# Altium schematic symbol library MainLibrary.SchLib: 144 symbols (part 2 of 2)
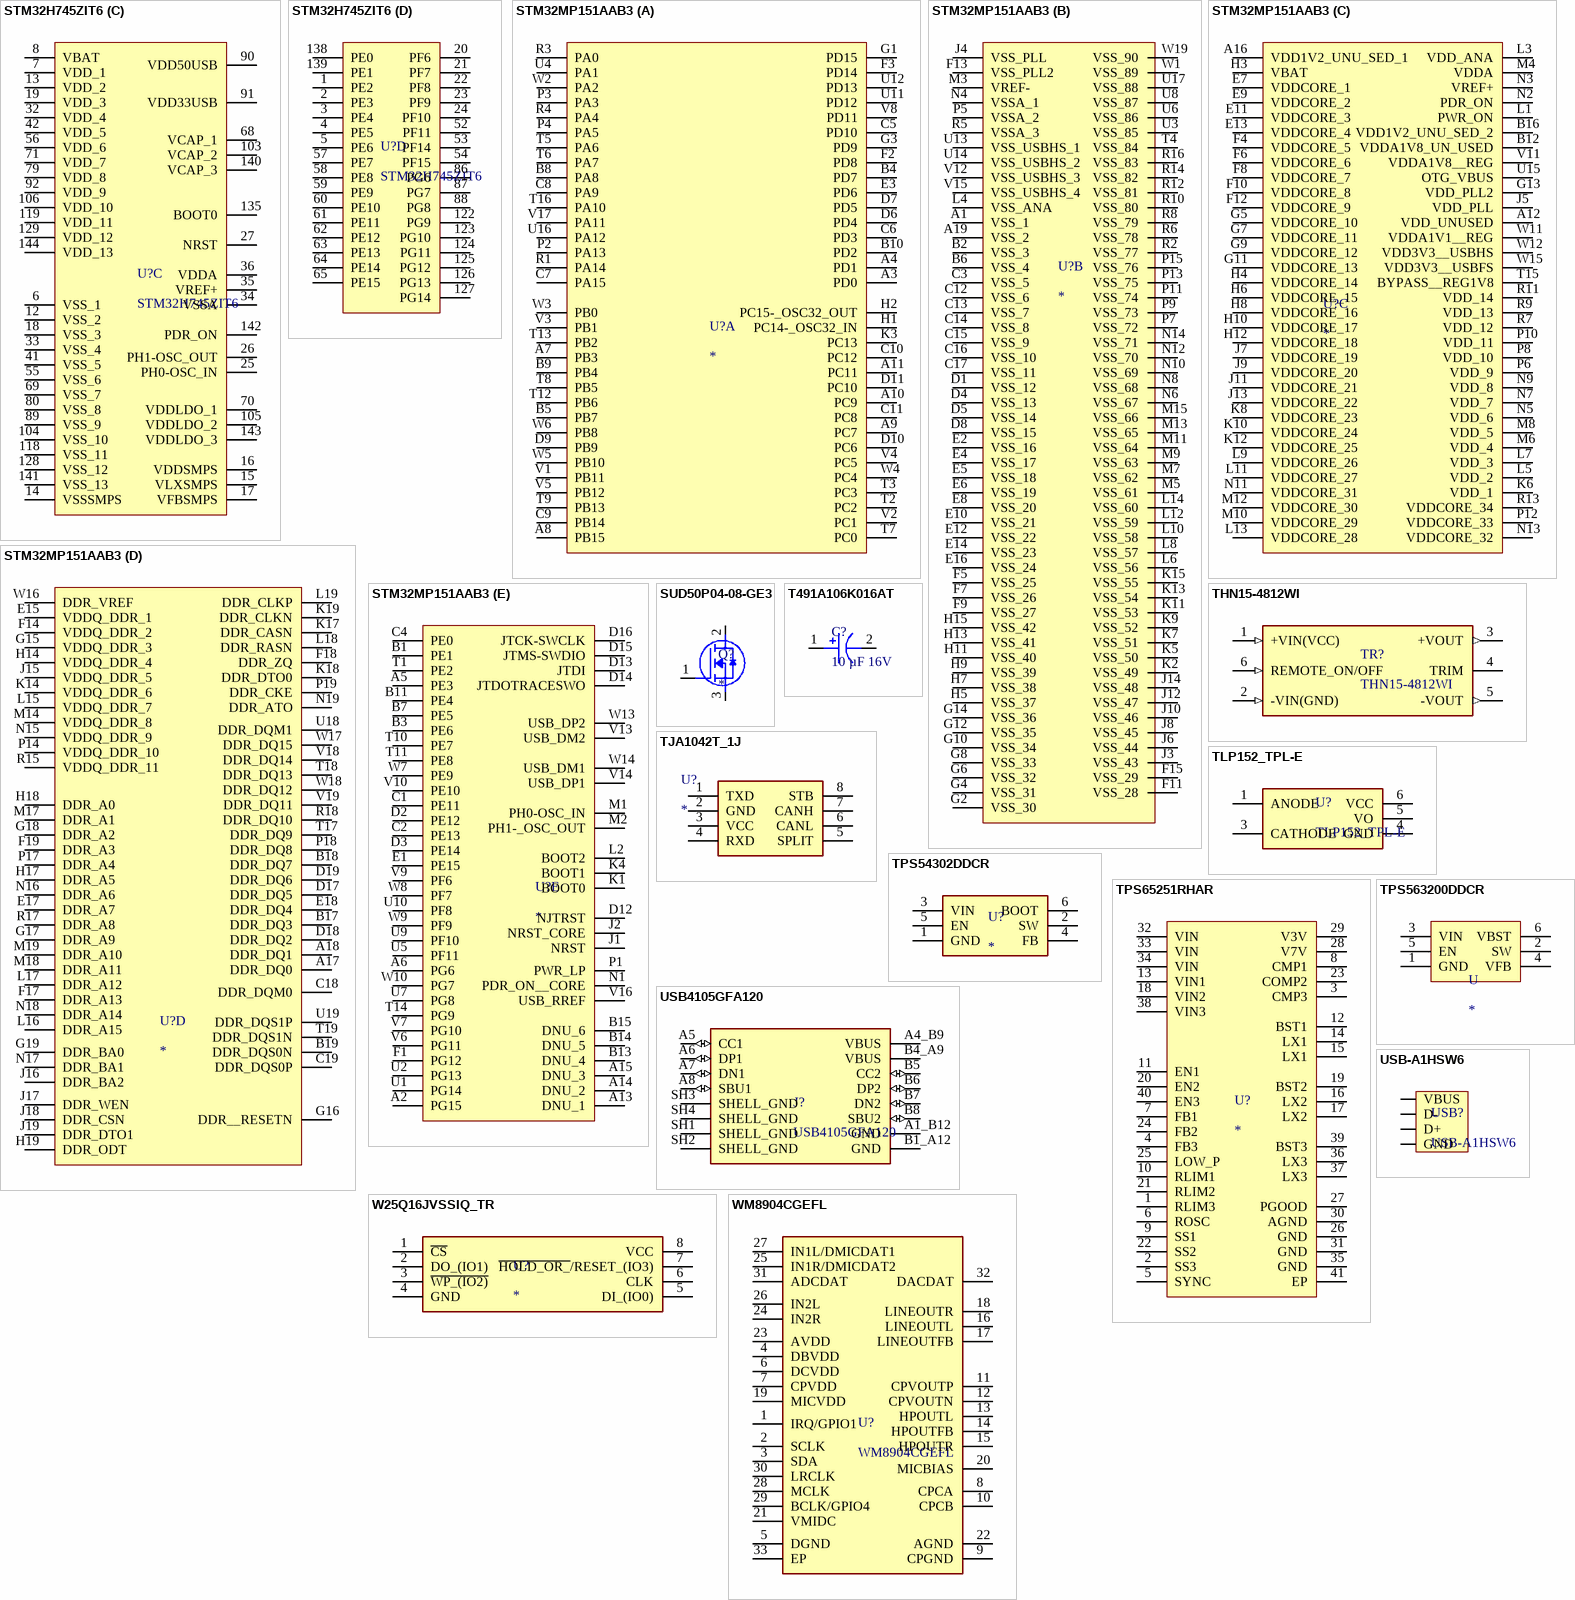
[diagram p5: symbols STM32H745ZIT6 to WM8904CGEFL]

## STM32MP151AAB3
designator U?
STM32 Microprocessor series L2 Cache; Manufacturer_Name: STMicroelectronics; Manufacturer_Part_Number: STM32MP151AAB3; Datasheet Link: https://mouser.componentsearchengine.com/Datasheets/2/STM32MP151AAB3.pdf; Height: 1.29mm; Mouser Part Number: 511-STM32MP151AAB3; Mouser Price/Stock: https://www.mouser.co.uk/ProductDetail/STMicroelectronics/STM32MP151AAB3?qs=9r4v7xj2Lnn9f1gOjh4FIw%3D%3D; Arrow Part Number: STM32MP151AAB3; Arrow Price/Stock: null?region=nac
footprint BGA354C80P19X19_1600X1600X129
part A pins: A3 PD0, A4 PD1, A7 PB3, A8 PB15, A9 PC7, A10 PC9, A11 PC11, B4 PD7, B5 PB7, B8 PA8, B9 PB4, B10 PD2, C5 PD10, C6 PD3, C7 PA15, C8 PA9, C9 PB14, C10 PC12, C11 PC8, D6 PD4, D7 PD5, D9 PB9, D10 PC6, D11 PC10, E3 PD6, F2 PD8, F3 PD14, G1 PD15, G3 PD9, H1 PC14-_OSC32_IN, H2 PC15-_OSC32_OUT, K3 PC13, P2 PA13, P3 PA3, P4 PA5, R1 PA14, R3 PA0, R4 PA4, T2 PC2, T3 PC3, T5 PA6, T6 PA7, T7 PC0, T8 PB5, T9 PB13, T12 PB6, T13 PB2, T16 PA10, U4 PA1, U11 PD12, U12 PD13, U16 PA12, V1 PB11, V2 PC1, V3 PB1, V4 PC5, V5 PB12, V8 PD11, V17 PA11, W2 PA2, W3 PB0, W4 PC4, W5 PB10, W6 PB8
part B pins: A1 VSS_1, A19 VSS_2, B2 VSS_3, B6 VSS_4, C3 VSS_5, C12 VSS_6, C13 VSS_7, C14 VSS_8, C15 VSS_9, C16 VSS_10, C17 VSS_11, D1 VSS_12, D4 VSS_13, D5 VSS_14, D8 VSS_15, E2 VSS_16, E4 VSS_17, E5 VSS_18, E6 VSS_19, E8 VSS_20, E10 VSS_21, E12 VSS_22, E14 VSS_23, E16 VSS_24, F5 VSS_25, F7 VSS_26, F9 VSS_27, F11 VSS_28, F13 VSS_PLL2, F15 VSS_29, G2 VSS_30, G4 VSS_31, G6 VSS_32, G8 VSS_33, G10 VSS_34, G12 VSS_35, G14 VSS_36, H5 VSS_37, H7 VSS_38, H9 VSS_39, H11 VSS_40, H13 VSS_41, H15 VSS_42, J3 VSS_43, J4 VSS_PLL, J6 VSS_44, J8 VSS_45, J10 VSS_46, J12 VSS_47, J14 VSS_48, K2 VSS_49, K5 VSS_50, K7 VSS_51, K9 VSS_52, K11 VSS_53, K13 VSS_54, K15 VSS_55, L4 VSS_ANA, L6 VSS_56, L8 VSS_57, L10 VSS_58, L12 VSS_59, L14 VSS_60, M3 VREF-, M5 VSS_61, M7 VSS_62, M9 VSS_63, M11 VSS_64, M13 VSS_65, M15 VSS_66, N4 VSSA_1, N6 VSS_67, N8 VSS_68, N10 VSS_69, N12 VSS_70, N14 VSS_71, P5 VSSA_2, P7 VSS_72, P9 VSS_73, P11 VSS_74, P13 VSS_75, P15 VSS_76, R2 VSS_77, R5 VSSA_3, R6 VSS_78, R8 VSS_79, R10 VSS_80, R12 VSS_81, R14 VSS_82, R16 VSS_83, T4 VSS_84, U3 VSS_85, U6 VSS_86, U8 VSS_87, U13 VSS_USBHS_1, U14 VSS_USBHS_2, U17 VSS_88, V12 VSS_USBHS_3, V15 VSS_USBHS_4, W1 VSS_89, W19 VSS_90
part C pins: A12 VDD_UNUSED, A16 VDD1V2_UNU_SED_1, B12 VDDA1V8_UN_USED, B16 VDD1V2_UNU_SED_2, E7 VDDCORE_1, E9 VDDCORE_2, E11 VDDCORE_3, E13 VDDCORE_4, F4 VDDCORE_5, F6 VDDCORE_6, F8 VDDCORE_7, F10 VDDCORE_8, F12 VDDCORE_9, G5 VDDCORE_10, G7 VDDCORE_11, G9 VDDCORE_12, G11 VDDCORE_13, G13 VDD_PLL2, H3 VBAT, H4 VDDCORE_14, H6 VDDCORE_15, H8 VDDCORE_16, H10 VDDCORE_17, H12 VDDCORE_18, J5 VDD_PLL, J7 VDDCORE_19, J9 VDDCORE_20, J11 VDDCORE_21, J13 VDDCORE_22, K6 VDD_1, K8 VDDCORE_23, K10 VDDCORE_24, K12 VDDCORE_25, L1 PWR_ON, L3 VDD_ANA, L5 VDD_2, L7 VDD_3, L9 VDDCORE_26, L11 VDDCORE_27, L13 VDDCORE_28, M4 VDDA, M6 VDD_4, M8 VDD_5, M10 VDDCORE_29, M12 VDDCORE_30, N2 PDR_ON, N3 VREF+, N5 VDD_6, N7 VDD_7, N9 VDD_8, N11 VDDCORE_31, N13 VDDCORE_32, P6 VDD_9, P8 VDD_10, P10 VDD_11, P12 VDDCORE_33, R7 VDD_12, R9 VDD_13, R11 VDD_14, R13 VDDCORE_34, T15 BYPASS__REG1V8, U15 OTG_VBUS, V11 VDDA1V8__REG, W11 VDDA1V1__REG, W12 VDD3V3__USBHS, W15 VDD3V3__USBFS
part D pins: A17 DDR_DQ0, A18 DDR_DQ1, B17 DDR_DQ3, B18 DDR_DQ7, B19 DDR_DQS0N, C18 DDR_DQM0, C19 DDR_DQS0P, D17 DDR_DQ5, D18 DDR_DQ2, D19 DDR_DQ6, E15 VDDQ_DDR_1, E17 DDR_A7, E18 DDR_DQ4, F14 VDDQ_DDR_2, F17 DDR_A13, F18 DDR_ZQ, F19 DDR_A3, G15 VDDQ_DDR_3, G16 DDR__RESETN, G17 DDR_A9, G18 DDR_A2, G19 DDR_BA0, H14 VDDQ_DDR_4, H17 DDR_A5, H18 DDR_A0, H19 DDR_ODT, J15 VDDQ_DDR_5, J16 DDR_BA2, J17 DDR_WEN, J18 DDR_CSN, J19 DDR_DTO1, K14 VDDQ_DDR_6, K17 DDR_CASN, K18 DDR_DTO0, K19 DDR_CLKN, L15 VDDQ_DDR_7, L16 DDR_A15, L17 DDR_A12, L18 DDR_RASN, L19 DDR_CLKP, M14 VDDQ_DDR_8, M17 DDR_A1, M18 DDR_A11, M19 DDR_A10, N15 VDDQ_DDR_9, N16 DDR_A6, N17 DDR_BA1, N18 DDR_A14, N19 DDR_ATO, P14 VDDQ_DDR_10, P17 DDR_A4, P18 DDR_DQ8, P19 DDR_CKE, R15 VDDQ_DDR_11, R17 DDR_A8, R18 DDR_DQ10, T17 DDR_DQ9, T18 DDR_DQ13, T19 DDR_DQS1N, U18 DDR_DQM1, U19 DDR_DQS1P, V18 DDR_DQ14, V19 DDR_DQ11, W16 DDR_VREF, W17 DDR_DQ15, W18 DDR_DQ12
part E pins: A2 PG15, A5 PE3, A6 PG6, A13 DNU_1, A14 DNU_2, A15 DNU_3, B1 PE1, B3 PE6, B7 PE5, B11 PE4, B13 DNU_4, B14 DNU_5, B15 DNU_6, C1 PE11, C2 PE13, C4 PE0, D2 PE12, D3 PE14, D12 NJTRST, D13 JTDI, D14 JTDOTRACESWO, D15 JTMS-SWDIO, D16 JTCK-SWCLK, E1 PE15, F1 PG12, J1 NRST, J2 NRST_CORE, K1 BOOT0, K4 BOOT1, L2 BOOT2, M1 PH0-OSC_IN, M2 PH1-_OSC_OUT, N1 PDR_ON__CORE, P1 PWR_LP, T1 PE2, T10 PE7, T11 PE8, T14 PG9, U1 PG14, U2 PG13, U5 PF11, U7 PG8, U9 PF10, U10 PF8, V6 PG11, V7 PG10, V9 PF6, V10 PE10, V13 USB_DM2, V14 USB_DP1, V16 USB_RREF, W7 PE9, W8 PF7, W9 PF9, W10 PG7, W13 USB_DP2, W14 USB_DM1

## SUD50P04-08-GE3
designator Q?
MOSFET (P-Channel) 50V 40A 8mOhms; Manufacturer_Name: Vishay; Manufacturer_Part_Number: SUD50P04-08-GE3; Datasheet Link: https://www.vishay.com/docs/65594/sud50p04-08.pdf; Height: 2.38mm; Mouser Part Number: 781-SUD50P04-08-GE3; Mouser Price/Stock: https://www.mouser.co.uk/ProductDetail/Vishay-Semiconductors/SUD50P04-08-GE3?qs=WX95TUc1y56BTDQkv3VCeQ%3D%3D; Arrow Part Number: SUD50P04-08-GE3; Arrow Price/Stock: https://www.arrow.com/en/products/sud50p04-08-ge3/vishay?region=europe
footprint TO-252
pins: 1 G, 2 D, 3 S

## T491A106K016AT
designator C?, comment 10 µF 16V
Capacitor Polarised Tantalum; Manufacturer_Name: KEMET; Manufacturer_Part_Number: T491A106K016AT; Datasheet Link: https://content.kemet.com/datasheets/KEM_T2005_T491.pdf; Height: 1.8mm; Mouser Part Number: 80-T491A106K016; Mouser Price/Stock: https://www.mouser.co.uk/ProductDetail/KEMET/T491A106K016AT?qs=hg06hKRDeG1uMktjT%252BG2VQ%3D%3D; Arrow Part Number: T491A106K016AT; Arrow Price/Stock: https://www.arrow.com/en/products/t491a106k016at/kemet-corporation?region=europe
footprint T491A
pins: 1 +, 2 -

## THN15-4812WI
designator TR?
15W DC/DC Converter TRACO POWER THN Series 1.2A
footprint CONV_THN_15-4812WI
pins: 1 +VIN(VCC) (in), 2 -VIN(GND) (in), 3 +VOUT (out), 4 TRIM, 5 -VOUT (out), 6 REMOTE_ON/OFF (in)

## TJA1042T_1J
designator U?
HIGH SPEED CANBUS TRANSRECEIVER + 5V; Manufacturer_Name: NXP; Manufacturer_Part_Number: TJA1042T/1J; Datasheet Link: http://www.nxp.com/docs/en/data-sheet/TJA1042.pdf; Height: 1.75mm; Mouser Part Number: 771-TJA1042T/1J; Mouser Price/Stock: https://www.mouser.co.uk/ProductDetail/NXP-Semiconductors/TJA1042T-1J?qs=gNSudQoqUYB5nZpx0evBtw%3D%3D; Arrow Part Number: TJA1042T/1J; Arrow Price/Stock: https://www.arrow.com/en/products/tja1042t1j/nxp-semiconductors?region=nac
footprint SOIC127P600X175-8N
pins: 1 TXD, 2 GND, 3 VCC, 4 RXD, 5 SPLIT, 6 CANL, 7 CANH, 8 STB

## TLP152_TPL-E
designator U?
IGBT-Mosfet Gate Driver 2.5A Output Current; Manufacturer_Name: Toshiba; Manufacturer_Part_Number: TLP152(TPL,E; Datasheet Link: http://toshiba.semicon-storage.com/info/docget.jsp?did=13615&prodName=TLP152; Height: 2.3mm; Mouser Part Number: 757-TLP152TPLE; Mouser Price/Stock: https://www.mouser.co.uk/ProductDetail/Toshiba/TLP152TPLE?qs=WTEd434rUSUZa6a75d6uQg%3D%3D; Arrow Part Number: TLP152(TPL,E; Arrow Price/Stock: https://www.arrow.com/en/products/tlp152-tple/toshiba?region=nac
footprint TLP152
pins: 1 ANODE, 3 CATHODE, 4 GND, 5 VO, 6 VCC

## TPS54302DDCR
designator U?
BUCK CONVERTER +28V 3A; Manufacturer_Name: Texas Instruments; Manufacturer_Part_Number: TPS54302DDCR; Datasheet Link: http://www.ti.com/general/docs/suppproductinfo.tsp?distId=10&gotoUrl=http%3A%2F%2Fwww.ti.com%2Flit%2Fgpn%2Ftps54302; Height: 1.1mm; Mouser Part Number: 595-TPS54302DDCR; Mouser Price/Stock: https://www.mouser.co.uk/ProductDetail/Texas-Instruments/TPS54302DDCR?qs=zEmsApcVOkUXM7UP0GSO2g%3D%3D; Arrow Part Number: TPS54302DDCR; Arrow Price/Stock: https://www.arrow.com/en/products/tps54302ddcr/texas-instruments?region=nac
footprint SOT95P280X110-6N
pins: 1 GND, 2 SW, 3 VIN, 4 FB, 5 EN, 6 BOOT

## TPS65251RHAR
designator U?
4.5-V TO 18-V input, 3A/2A/2A output, synchronous triple buck converter; MP: TPS65251RHAR; MF: Texas Instruments; SnapEDA_Link: https://www.snapeda.com/parts/TPS65251RHAR/Texas+Instruments/view-part/?ref=snap; Package: VQFN-40 Texas Instruments; Check_prices: https://www.snapeda.com/parts/TPS65251RHAR/Texas+Instruments/view-part/?ref=eda; Purchase-URL: https://pricing.snapeda.com/search/part/TPS65251RHAR/?ref=eda; Price: None; Value: *; Availability: In Stock
footprint QFN50P600X600X100-41N
pins: 1 RLIM3, 2 SS3, 3 CMP3, 4 FB3, 5 SYNC, 6 ROSC, 7 FB1, 8 CMP1, 9 SS1, 10 RLIM1, 11 EN1, 12 BST1, 13 VIN1, 14 LX1, 15 LX1, 16 LX2, 17 LX2, 18 VIN2, 19 BST2, 20 EN2, 21 RLIM2, 22 SS2, 23 COMP2, 24 FB2, 25 LOW_P, 26 GND, 27 PGOOD, 28 V7V, 29 V3V, 30 AGND, 31 GND, 32 VIN, 33 VIN, 34 VIN, 35 GND, 36 LX3, 37 LX3, 38 VIN3, 39 BST3, 40 EN3, 41 EP

## TPS563200DDCR
designator U
17 V Input, 3A Synchronous Step-Down Regulator in SOT-23 with Advanced Eco-mode&trade; 6-SOT-23-THIN -40 to 125; MP: TPS563200DDCR; MF: Texas Instruments; Availability: Good; Texas_Instruments-Purchase-URL: https://snapeda.com/shop?store=Texas+Instruments&id=71685; Value: *; DigiKey-Purchase-URL: https://snapeda.com/shop?store=DigiKey&id=71685; Package: SOT-23-THN-6 Texas Instruments; Price: None; SnapEDA_Link: https://www.snapeda.com/parts/TPS563200DDCR/Texas%20Instruments/view-part/71685/?ref=snap; Mouser-Purchase-URL: https://snapeda.com/shop?store=Mouser&id=71685
footprint SOT95P280X110-6N
pins: 1 GND (power), 2 SW, 3 VIN, 4 VFB, 5 EN, 6 VBST

## USB4105GFA120
designator J?
USB CONN, 2.0 TYPE C, RCPT, 16POS, SMT; USB Connector Type:USB Type C; USB Standard:USB 2.0; Gender:Receptacle; No. of Positions:16Positions; Connector Mounting:Surface Mount, Through Hole Mount; Orientation:Right Angle RoHS Compliant: Yes; MF: Global Connector Technology; SnapEDA_Link: https://www.snapeda.com/parts/USB4105GFA120/Global+Connector+Technology/view-part/?ref=snap; Package: None; Value: *; MP: USB4105GFA120; Check_prices: https://www.snapeda.com/parts/USB4105GFA120/Global+Connector+Technology/view-part/?ref=eda
footprint GCT_USB4105GFA120
pins: A1_B12 GND (power), A4_B9 VBUS (power), A5 CC1 (io), A6 DP1 (io), A7 DN1 (io), A8 SBU1 (io), B1_A12 GND (power), B4_A9 VBUS (power), B5 CC2 (io), B6 DP2 (io), B7 DN2 (io), B8 SBU2 (io), SH1 SHELL_GND (power), SH2 SHELL_GND (power), SH3 SHELL_GND (power), SH4 SHELL_GND (power)

## USB-A1HSW6
designator USB?
USB-A (USB TYPE-A) - Receptacle Connector 4 Position Through Hole, Right Angle; MF: On Shore; Value: *; SnapEDA_Link: https://www.snapeda.com/parts/USB-A1HSW6/On+Shore+Technology+Inc./view-part/?ref=snap; Purchase-URL: https://pricing.snapeda.com/search/part/USB-A1HSW6/?ref=eda; Availability: In Stock; Price: None; Package: None; Check_prices: https://www.snapeda.com/parts/USB-A1HSW6/On+Shore+Technology+Inc./view-part/?ref=eda; MP: USB-A1HSW6
footprint OST_USB-A1HSW6
pins: 1 VBUS (power), 2 D-, 3 D+, 4 GND (power)

## W25Q16JVSSIQ_TR
designator U?
FLASH 16MB SPI; Manufacturer_Name: Winbond; Manufacturer_Part_Number: W25Q16JVSSIQ TR; Datasheet Link: https://www.winbond.com/resource-files/w25q16jv%20spi%20revg%2003222018%20plus.pdf; Height: 2.16mm; Mouser Part Number: 454-W25Q16JVSSIQTR; Mouser Price/Stock: https://www.mouser.co.uk/ProductDetail/Winbond/W25Q16JVSSIQ-TR?qs=qSfuJ%252Bfl%2Fd6oXlsNm7Svfg%3D%3D; Arrow Part Number: W25Q16JVSSIQ TR; Arrow Price/Stock: https://www.arrow.com/en/products/w25q16jvssiqtr/winbond-electronics?region=nac
footprint SOIC127P790X216-8N
pins: 1 ~{CS}, 2 DO_(IO1), 3 ~{WP_(IO2)}, 4 GND, 5 DI_(IO0), 6 CLK, 7 ~{HOLD_OR_}/RESET_(IO3), 8 VCC

## WM8904CGEFL
designator U?
Stereo Codec IC; Manufacturer_Name: Cirrus Logic; Manufacturer_Part_Number: WM8904CGEFL/V; Datasheet Link: https://statics.cirrus.com/pubs/proDatasheet/WM8904_Rev4.0.pdf; Height: 0.8mm; Mouser Part Number: 238-WM8904CGEFL/V; Mouser Price/Stock: https://www.mouser.co.uk/ProductDetail/Cirrus-Logic/WM8904CGEFL-V?qs=G8wrXCBxhFucvRVD%2FY2Zqw%3D%3D
footprint QFN40P400X400X80-33N
pins: 1 IRQ/GPIO1, 2 SCLK, 3 SDA, 4 DBVDD, 5 DGND, 6 DCVDD, 7 CPVDD, 8 CPCA, 9 CPGND, 10 CPCB, 11 CPVOUTP, 12 CPVOUTN, 13 HPOUTL, 14 HPOUTFB, 15 HPOUTR, 16 LINEOUTL, 17 LINEOUTFB, 18 LINEOUTR, 19 MICVDD, 20 MICBIAS, 21 VMIDC, 22 AGND, 23 AVDD, 24 IN2R, 25 IN1R/DMICDAT2, 26 IN2L, 27 IN1L/DMICDAT1, 28 MCLK, 29 BCLK/GPIO4, 30 LRCLK, 31 ADCDAT, 32 DACDAT, 33 EP